# Altium schematic symbol library MyMicroUSB.SchLib: 1 symbol
Pins are listed as number, name and electrical type; pins without a type are passive.

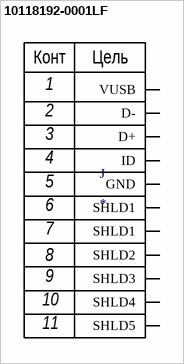
[diagram p0: symbol 10118192-0001LF]

## 10118192-0001LF
designator J
USB - micro B USB 2.0 Receptacle Connector 5 Position Surface Mount, Right Angle; MP: 10118192-0001LF; MF: Amphenol ICC; Availability: Unavailable; Price: None; Package: None; Value: *; SnapEDA_Link: https://www.snapeda.com/parts/10118192-0001LF/Amphenol%20FCI/view-part/2897676/?ref=snap
footprint AMPHENOL_10118192-0001LF
pins: 1 VUSB, 2 D-, 3 D+, 4 ID, 5 GND, SH1 SHLD1, SH2 SHLD1, SH3 SHLD2, SH4 SHLD3, SH5 SHLD4, SH6 SHLD5
text: Конт; Цель; 6; 7; 8; 9; 10; 11